# EAGLE library part BQ2058T (library texas)
CHARGE MANAGEMENT IC
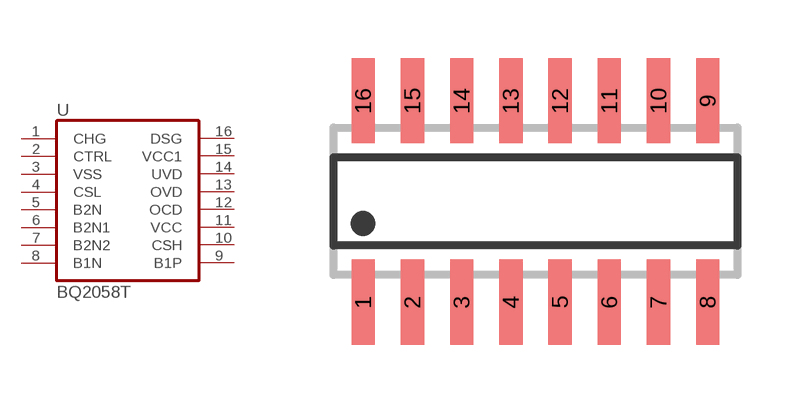
[diagram p2: symbol with the pads of SO16; footprint SO16]

Designator prefix U

## BQ2058T  [SO16]
1  CHG  hiz
2  CTRL  in
3  VSS  pwr
4  CSL  in
5  B2N  in
6  B2N1  in
7  B2N2  in
8  B1N  in
9  B1P  in
10  CSH  in
11  VCC  pwr
12  OCD  in
13  OVD  in
14  UVD  in
15  VCC1  pwr
16  DSG  out

## Footprint SO16 (pad centres in mm)
SMALL OUTLINE INTEGRATED CIRCUIT body 3.9 mm/JEDEC MS-012AC
smd 0.6 x 2.2: 1 -4.445,-2.6; 2 -3.175,-2.6; 3 -1.905,-2.6; 4 -0.635,-2.6; 5 0.635,-2.6; 6 1.905,-2.6; 7 3.175,-2.6; 8 4.445,-2.6; 9 4.445,2.6; 10 3.175,2.6; 11 1.905,2.6; 12 0.635,2.6; 13 -0.635,2.6; 14 -1.905,2.6; 15 -3.175,2.6; 16 -4.445,2.6